# Altium footprint library QFP (~0.6mm Pitch, Square) - Corner Index.PcbLib: 21 footprints (part 1 of 2)
Each footprint in its own frame and in the unit in brackets; x right, y up, seen from the top. Pads: shape width x height; smd on the part's side, far side on the other; paste and mask are expansions set on the pad; w line width, h text height; cw(c..) or ccw(c..) is an arc to the next point about the centre after c.
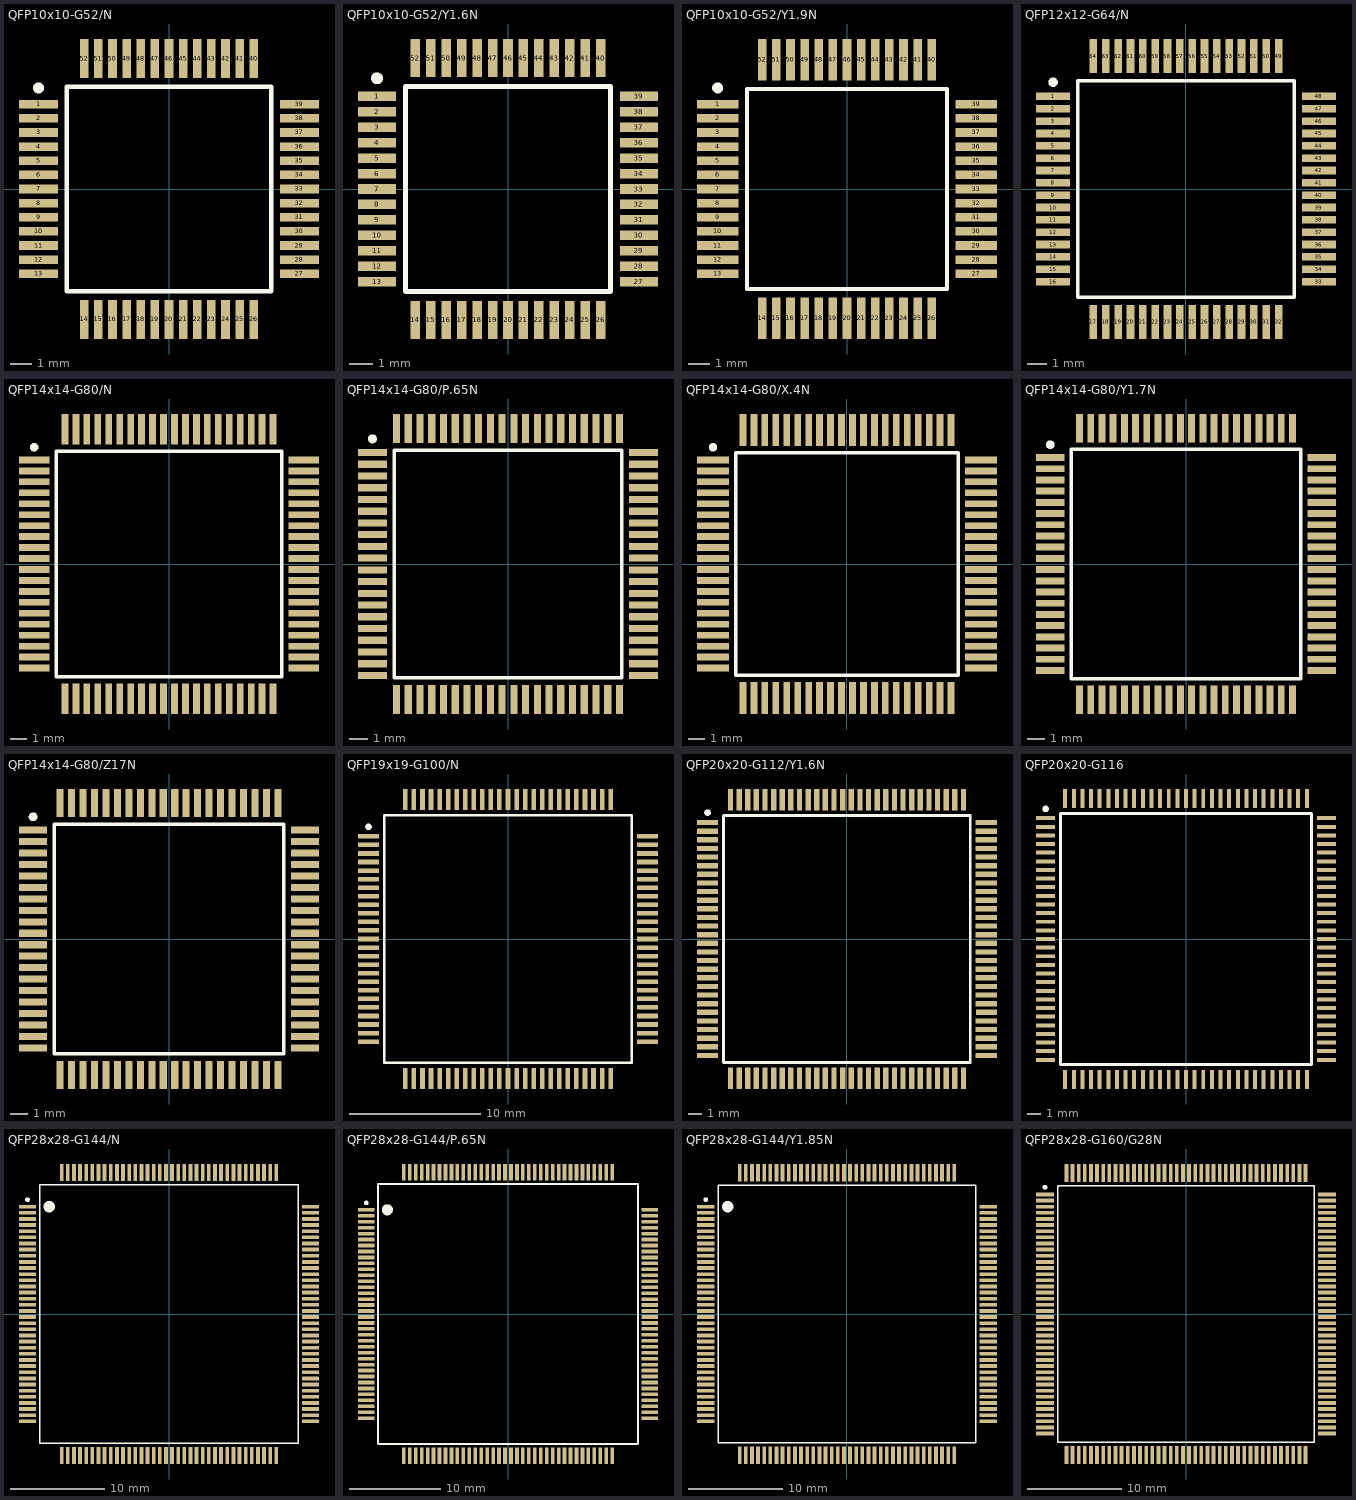
[diagram p0: the footprints below, top view; thin cyan lines are the x and y axes]

## QFP10x10-G52/N [mm] "QFP, Plastic; 52 Leads; Body 10 x 10 mm; Pitch 0.65 mm"
height 2.45
pads (52):
  rect 1.8x0.4 smd: 1(-6,3.9) 2(-6,3.25) 3(-6,2.6) 4(-6,1.95) 5(-6,1.3) 6(-6,0.65) 7(-6,0) 8(-6,-0.65) 9(-6,-1.3) 10(-6,-1.95) 11(-6,-2.6) 12(-6,-3.25) 13(-6,-3.9) 27(6,-3.9) 28(6,-3.25) 29(6,-2.6) 30(6,-1.95) 31(6,-1.3) 32(6,-0.65) 33(6,0) 34(6,0.65) 35(6,1.3) 36(6,1.95) 37(6,2.6) 38(6,3.25) 39(6,3.9)
  rect 0.4x1.8 smd: 14(-3.9,-6) 15(-3.25,-6) 16(-2.6,-6) 17(-1.95,-6) 18(-1.3,-6) 19(-0.65,-6) 20(0,-6) 21(0.65,-6) 22(1.3,-6) 23(1.95,-6) 24(2.6,-6) 25(3.25,-6) 26(3.9,-6) 40(3.9,6) 41(3.25,6) 42(2.6,6) 43(1.95,6) 44(1.3,6) 45(0.65,6) 46(0,6) 47(-0.65,6) 48(-1.3,6) 49(-1.95,6) 50(-2.6,6) 51(-3.25,6) 52(-3.9,6)
Top Overlay:
  circle w0.25: c-6,4.65 r0.125
  lines w0.2: -4.7,-4.7 4.7,-4.7 4.7,4.7 -4.7,4.7 -4.7,-4.7

## QFP10x10-G52/Y1.6N [mm] "QFP, Plastic; 52 Leads; Body 10 x 10 mm; Pitch 0.65 mm"
height 1.2
pads (52):
  rect 1.6x0.4 smd: 1(-5.5,3.9) 2(-5.5,3.25) 3(-5.5,2.6) 4(-5.5,1.95) 5(-5.5,1.3) 6(-5.5,0.65) 7(-5.5,0) 8(-5.5,-0.65) 9(-5.5,-1.3) 10(-5.5,-1.95) 11(-5.5,-2.6) 12(-5.5,-3.25) 13(-5.5,-3.9) 27(5.5,-3.9) 28(5.5,-3.25) 29(5.5,-2.6) 30(5.5,-1.95) 31(5.5,-1.3) 32(5.5,-0.65) 33(5.5,0) 34(5.5,0.65) 35(5.5,1.3) 36(5.5,1.95) 37(5.5,2.6) 38(5.5,3.25) 39(5.5,3.9)
  rect 0.4x1.6 smd: 14(-3.9,-5.5) 15(-3.25,-5.5) 16(-2.6,-5.5) 17(-1.95,-5.5) 18(-1.3,-5.5) 19(-0.65,-5.5) 20(0,-5.5) 21(0.65,-5.5) 22(1.3,-5.5) 23(1.95,-5.5) 24(2.6,-5.5) 25(3.25,-5.5) 26(3.9,-5.5) 40(3.9,5.5) 41(3.25,5.5) 42(2.6,5.5) 43(1.95,5.5) 44(1.3,5.5) 45(0.65,5.5) 46(0,5.5) 47(-0.65,5.5) 48(-1.3,5.5) 49(-1.95,5.5) 50(-2.6,5.5) 51(-3.25,5.5) 52(-3.9,5.5)
Top Overlay:
  circle w0.25: c-5.5,4.65 r0.125
  lines w0.2: -4.3,-4.3 4.3,-4.3 4.3,4.3 -4.3,4.3 -4.3,-4.3

## QFP10x10-G52/Y1.9N [mm] "QFP; 52 Leads; Body 10 x 10 mm; Pitch 0.65 mm"
height 2.45
pads (52):
  rect 1.9x0.4 smd: 1(-5.95,3.9) 2(-5.95,3.25) 3(-5.95,2.6) 4(-5.95,1.95) 5(-5.95,1.3) 6(-5.95,0.65) 7(-5.95,0) 8(-5.95,-0.65) 9(-5.95,-1.3) 10(-5.95,-1.95) 11(-5.95,-2.6) 12(-5.95,-3.25) 13(-5.95,-3.9) 27(5.95,-3.9) 28(5.95,-3.25) 29(5.95,-2.6) 30(5.95,-1.95) 31(5.95,-1.3) 32(5.95,-0.65) 33(5.95,0) 34(5.95,0.65) 35(5.95,1.3) 36(5.95,1.95) 37(5.95,2.6) 38(5.95,3.25) 39(5.95,3.9)
  rect 0.4x1.9 smd: 14(-3.9,-5.95) 15(-3.25,-5.95) 16(-2.6,-5.95) 17(-1.95,-5.95) 18(-1.3,-5.95) 19(-0.65,-5.95) 20(0,-5.95) 21(0.65,-5.95) 22(1.3,-5.95) 23(1.95,-5.95) 24(2.6,-5.95) 25(3.25,-5.95) 26(3.9,-5.95) 40(3.9,5.95) 41(3.25,5.95) 42(2.6,5.95) 43(1.95,5.95) 44(1.3,5.95) 45(0.65,5.95) 46(0,5.95) 47(-0.65,5.95) 48(-1.3,5.95) 49(-1.95,5.95) 50(-2.6,5.95) 51(-3.25,5.95) 52(-3.9,5.95)
Top Overlay:
  circle w0.25: c-5.95,4.65 r0.125
  lines w0.2: -4.6,-4.6 -4.6,4.6 4.6,4.6 4.6,-4.6 -4.6,-4.6

## QFP12x12-G64/N [mm] "QFP; 64 Leads; Body 12 x 12 mm; Pitch 0.65 mm"
height 2.45
pads (64):
  rect 1.8x0.4 smd: 1(-7,4.875) 2(-7,4.225) 3(-7,3.575) 4(-7,2.925) 5(-7,2.275) 6(-7,1.625) 7(-7,0.975) 8(-7,0.325) 9(-7,-0.325) 10(-7,-0.975) 11(-7,-1.625) 12(-7,-2.275) 13(-7,-2.925) 14(-7,-3.575) 15(-7,-4.225) 16(-7,-4.875) 33(7,-4.875) 34(7,-4.225) 35(7,-3.575) 36(7,-2.925) 37(7,-2.275) 38(7,-1.625) 39(7,-0.975) 40(7,-0.325) 41(7,0.325) 42(7,0.975) 43(7,1.625) 44(7,2.275) 45(7,2.925) 46(7,3.575) 47(7,4.225) 48(7,4.875)
  rect 0.4x1.8 smd: 17(-4.875,-7) 18(-4.225,-7) 19(-3.575,-7) 20(-2.925,-7) 21(-2.275,-7) 22(-1.625,-7) 23(-0.975,-7) 24(-0.325,-7) 25(0.325,-7) 26(0.975,-7) 27(1.625,-7) 28(2.275,-7) 29(2.925,-7) 30(3.575,-7) 31(4.225,-7) 32(4.875,-7) 49(4.875,7) 50(4.225,7) 51(3.575,7) 52(2.925,7) 53(2.275,7) 54(1.625,7) 55(0.975,7) 56(0.325,7) 57(-0.325,7) 58(-0.975,7) 59(-1.625,7) 60(-2.275,7) 61(-2.925,7) 62(-3.575,7) 63(-4.225,7) 64(-4.875,7)
Top Overlay:
  circle w0.25: c-7,5.625 r0.125
  lines w0.2: -5.7,-5.7 5.7,-5.7 5.7,5.7 -5.7,5.7 -5.7,-5.7

## QFP14x14-G80/N [mm] "QFP; 80 Leads; Body 14 x 14 mm; Pitch 0.65 mm"
height 2.45
pads (80):
  rect 1.8x0.4 smd: 1(-8,6.175) 2(-8,5.525) 3(-8,4.875) 4(-8,4.225) 5(-8,3.575) 6(-8,2.925) 7(-8,2.275) 8(-8,1.625) 9(-8,0.975) 10(-8,0.325) 11(-8,-0.325) 12(-8,-0.975) 13(-8,-1.625) 14(-8,-2.275) 15(-8,-2.925) 16(-8,-3.575) 17(-8,-4.225) 18(-8,-4.875) 19(-8,-5.525) 20(-8,-6.175) 41(8,-6.175) 42(8,-5.525) 43(8,-4.875) 44(8,-4.225) 45(8,-3.575) 46(8,-2.925) 47(8,-2.275) 48(8,-1.625) 49(8,-0.975) 50(8,-0.325) 51(8,0.325) 52(8,0.975) 53(8,1.625) 54(8,2.275) 55(8,2.925) 56(8,3.575) 57(8,4.225) 58(8,4.875) 59(8,5.525) 60(8,6.175)
  rect 0.4x1.8 smd: 21(-6.175,-8) 22(-5.525,-8) 23(-4.875,-8) 24(-4.225,-8) 25(-3.575,-8) 26(-2.925,-8) 27(-2.275,-8) 28(-1.625,-8) 29(-0.975,-8) 30(-0.325,-8) 31(0.325,-8) 32(0.975,-8) 33(1.625,-8) 34(2.275,-8) 35(2.925,-8) 36(3.575,-8) 37(4.225,-8) 38(4.875,-8) 39(5.525,-8) 40(6.175,-8) 61(6.175,8) 62(5.525,8) 63(4.875,8) 64(4.225,8) 65(3.575,8) 66(2.925,8) 67(2.275,8) 68(1.625,8) 69(0.975,8) 70(0.325,8) 71(-0.325,8) 72(-0.975,8) 73(-1.625,8) 74(-2.275,8) 75(-2.925,8) 76(-3.575,8) 77(-4.225,8) 78(-4.875,8) 79(-5.525,8) 80(-6.175,8)
Top Overlay:
  circle w0.25: c-8,6.925 r0.125
  lines w0.2: -6.7,-6.7 6.7,-6.7 6.7,6.7 -6.7,6.7 -6.7,-6.7

## QFP14x14-G80/P.65N [mm] "80-Pin Plastic Quad Flat Pack (VQFP)"
height 1.2
pads (80):
  rect 1.6x0.4 smd: 1(-7.5,6.175) 2(-7.5,5.525) 3(-7.5,4.875) 4(-7.5,4.225) 5(-7.5,3.575) 6(-7.5,2.925) 7(-7.5,2.275) 8(-7.5,1.625) 9(-7.5,0.975) 10(-7.5,0.325) 11(-7.5,-0.325) 12(-7.5,-0.975) 13(-7.5,-1.625) 14(-7.5,-2.275) 15(-7.5,-2.925) 16(-7.5,-3.575) 17(-7.5,-4.225) 18(-7.5,-4.875) 19(-7.5,-5.525) 20(-7.5,-6.175) 41(7.5,-6.175) 42(7.5,-5.525) 43(7.5,-4.875) 44(7.5,-4.225) 45(7.5,-3.575) 46(7.5,-2.925) 47(7.5,-2.275) 48(7.5,-1.625) 49(7.5,-0.975) 50(7.5,-0.325) 51(7.5,0.325) 52(7.5,0.975) 53(7.5,1.625) 54(7.5,2.275) 55(7.5,2.925) 56(7.5,3.575) 57(7.5,4.225) 58(7.5,4.875) 59(7.5,5.525) 60(7.5,6.175)
  rect 0.4x1.6 smd: 21(-6.175,-7.5) 22(-5.525,-7.5) 23(-4.875,-7.5) 24(-4.225,-7.5) 25(-3.575,-7.5) 26(-2.925,-7.5) 27(-2.275,-7.5) 28(-1.625,-7.5) 29(-0.975,-7.5) 30(-0.325,-7.5) 31(0.325,-7.5) 32(0.975,-7.5) 33(1.625,-7.5) 34(2.275,-7.5) 35(2.925,-7.5) 36(3.575,-7.5) 37(4.225,-7.5) 38(4.875,-7.5) 39(5.525,-7.5) 40(6.175,-7.5) 61(6.175,7.5) 62(5.525,7.5) 63(4.875,7.5) 64(4.225,7.5) 65(3.575,7.5) 66(2.925,7.5) 67(2.275,7.5) 68(1.625,7.5) 69(0.975,7.5) 70(0.325,7.5) 71(-0.325,7.5) 72(-0.975,7.5) 73(-1.625,7.5) 74(-2.275,7.5) 75(-2.925,7.5) 76(-3.575,7.5) 77(-4.225,7.5) 78(-4.875,7.5) 79(-5.525,7.5) 80(-6.175,7.5)
Top Overlay:
  circle w0.25: c-7.5,6.925 r0.125
  lines w0.2: -6.3,-6.3 -6.3,6.3 6.3,6.3 6.3,-6.3 -6.3,-6.3

## QFP14x14-G80/X.4N [mm] "QFP; 80 Leads; Body 14 x 14 mm; Pitch 0.65 mm"
height 3.4
pads (80):
  rect 1.9x0.4 smd: 1(-7.95,6.175) 2(-7.95,5.525) 3(-7.95,4.875) 4(-7.95,4.225) 5(-7.95,3.575) 6(-7.95,2.925) 7(-7.95,2.275) 8(-7.95,1.625) 9(-7.95,0.975) 10(-7.95,0.325) 11(-7.95,-0.325) 12(-7.95,-0.975) 13(-7.95,-1.625) 14(-7.95,-2.275) 15(-7.95,-2.925) 16(-7.95,-3.575) 17(-7.95,-4.225) 18(-7.95,-4.875) 19(-7.95,-5.525) 20(-7.95,-6.175) 41(7.95,-6.175) 42(7.95,-5.525) 43(7.95,-4.875) 44(7.95,-4.225) 45(7.95,-3.575) 46(7.95,-2.925) 47(7.95,-2.275) 48(7.95,-1.625) 49(7.95,-0.975) 50(7.95,-0.325) 51(7.95,0.325) 52(7.95,0.975) 53(7.95,1.625) 54(7.95,2.275) 55(7.95,2.925) 56(7.95,3.575) 57(7.95,4.225) 58(7.95,4.875) 59(7.95,5.525) 60(7.95,6.175)
  rect 0.4x1.9 smd: 21(-6.175,-7.95) 22(-5.525,-7.95) 23(-4.875,-7.95) 24(-4.225,-7.95) 25(-3.575,-7.95) 26(-2.925,-7.95) 27(-2.275,-7.95) 28(-1.625,-7.95) 29(-0.975,-7.95) 30(-0.325,-7.95) 31(0.325,-7.95) 32(0.975,-7.95) 33(1.625,-7.95) 34(2.275,-7.95) 35(2.925,-7.95) 36(3.575,-7.95) 37(4.225,-7.95) 38(4.875,-7.95) 39(5.525,-7.95) 40(6.175,-7.95) 61(6.175,7.95) 62(5.525,7.95) 63(4.875,7.95) 64(4.225,7.95) 65(3.575,7.95) 66(2.925,7.95) 67(2.275,7.95) 68(1.625,7.95) 69(0.975,7.95) 70(0.325,7.95) 71(-0.325,7.95) 72(-0.975,7.95) 73(-1.625,7.95) 74(-2.275,7.95) 75(-2.925,7.95) 76(-3.575,7.95) 77(-4.225,7.95) 78(-4.875,7.95) 79(-5.525,7.95) 80(-6.175,7.95)
Top Overlay:
  circle w0.25: c-7.95,6.925 r0.125
  lines w0.2: -6.6,-6.6 6.6,-6.6 6.6,6.6 -6.6,6.6 -6.6,-6.6

## QFP14x14-G80/Y1.7N [mm] "QFP; 80 Leads; Body 14 x 14 mm; Pitch 0.65 mm"
height 3.05
pads (80):
  rect 1.65x0.4 smd: 1(-7.875,6.175) 2(-7.875,5.525) 3(-7.875,4.875) 4(-7.875,4.225) 5(-7.875,3.575) 6(-7.875,2.925) 7(-7.875,2.275) 8(-7.875,1.625) 9(-7.875,0.975) 10(-7.875,0.325) 11(-7.875,-0.325) 12(-7.875,-0.975) 13(-7.875,-1.625) 14(-7.875,-2.275) 15(-7.875,-2.925) 16(-7.875,-3.575) 17(-7.875,-4.225) 18(-7.875,-4.875) 19(-7.875,-5.525) 20(-7.875,-6.175) 41(7.875,-6.175) 42(7.875,-5.525) 43(7.875,-4.875) 44(7.875,-4.225) 45(7.875,-3.575) 46(7.875,-2.925) 47(7.875,-2.275) 48(7.875,-1.625) 49(7.875,-0.975) 50(7.875,-0.325) 51(7.875,0.325) 52(7.875,0.975) 53(7.875,1.625) 54(7.875,2.275) 55(7.875,2.925) 56(7.875,3.575) 57(7.875,4.225) 58(7.875,4.875) 59(7.875,5.525) 60(7.875,6.175)
  rect 0.4x1.65 smd: 21(-6.175,-7.875) 22(-5.525,-7.875) 23(-4.875,-7.875) 24(-4.225,-7.875) 25(-3.575,-7.875) 26(-2.925,-7.875) 27(-2.275,-7.875) 28(-1.625,-7.875) 29(-0.975,-7.875) 30(-0.325,-7.875) 31(0.325,-7.875) 32(0.975,-7.875) 33(1.625,-7.875) 34(2.275,-7.875) 35(2.925,-7.875) 36(3.575,-7.875) 37(4.225,-7.875) 38(4.875,-7.875) 39(5.525,-7.875) 40(6.175,-7.875) 61(6.175,7.875) 62(5.525,7.875) 63(4.875,7.875) 64(4.225,7.875) 65(3.575,7.875) 66(2.925,7.875) 67(2.275,7.875) 68(1.625,7.875) 69(0.975,7.875) 70(0.325,7.875) 71(-0.325,7.875) 72(-0.975,7.875) 73(-1.625,7.875) 74(-2.275,7.875) 75(-2.925,7.875) 76(-3.575,7.875) 77(-4.225,7.875) 78(-4.875,7.875) 79(-5.525,7.875) 80(-6.175,7.875)
Top Overlay:
  circle w0.25: c-7.875,6.925 r0.125
  lines w0.2: -6.65,-6.65 -6.65,6.65 6.65,6.65 6.65,-6.65 -6.65,-6.65

## QFP14x14-G80/Z17N [mm] "QFP; 80 Leads; Body 14 x 14 mm; Pitch 0.65 mm"
height 1.6
pads (80):
  rect 1.6x0.4 smd: 1(-7.7,6.175) 2(-7.7,5.525) 3(-7.7,4.875) 4(-7.7,4.225) 5(-7.7,3.575) 6(-7.7,2.925) 7(-7.7,2.275) 8(-7.7,1.625) 9(-7.7,0.975) 10(-7.7,0.325) 11(-7.7,-0.325) 12(-7.7,-0.975) 13(-7.7,-1.625) 14(-7.7,-2.275) 15(-7.7,-2.925) 16(-7.7,-3.575) 17(-7.7,-4.225) 18(-7.7,-4.875) 19(-7.7,-5.525) 20(-7.7,-6.175) 41(7.7,-6.175) 42(7.7,-5.525) 43(7.7,-4.875) 44(7.7,-4.225) 45(7.7,-3.575) 46(7.7,-2.925) 47(7.7,-2.275) 48(7.7,-1.625) 49(7.7,-0.975) 50(7.7,-0.325) 51(7.7,0.325) 52(7.7,0.975) 53(7.7,1.625) 54(7.7,2.275) 55(7.7,2.925) 56(7.7,3.575) 57(7.7,4.225) 58(7.7,4.875) 59(7.7,5.525) 60(7.7,6.175)
  rect 0.4x1.6 smd: 21(-6.175,-7.7) 22(-5.525,-7.7) 23(-4.875,-7.7) 24(-4.225,-7.7) 25(-3.575,-7.7) 26(-2.925,-7.7) 27(-2.275,-7.7) 28(-1.625,-7.7) 29(-0.975,-7.7) 30(-0.325,-7.7) 31(0.325,-7.7) 32(0.975,-7.7) 33(1.625,-7.7) 34(2.275,-7.7) 35(2.925,-7.7) 36(3.575,-7.7) 37(4.225,-7.7) 38(4.875,-7.7) 39(5.525,-7.7) 40(6.175,-7.7) 61(6.175,7.7) 62(5.525,7.7) 63(4.875,7.7) 64(4.225,7.7) 65(3.575,7.7) 66(2.925,7.7) 67(2.275,7.7) 68(1.625,7.7) 69(0.975,7.7) 70(0.325,7.7) 71(-0.325,7.7) 72(-0.975,7.7) 73(-1.625,7.7) 74(-2.275,7.7) 75(-2.925,7.7) 76(-3.575,7.7) 77(-4.225,7.7) 78(-4.875,7.7) 79(-5.525,7.7) 80(-6.175,7.7)
Top Overlay:
  circle w0.25: c-7.7,6.925 r0.125
  lines w0.2: -6.5,-6.5 6.5,-6.5 6.5,6.5 -6.5,6.5 -6.5,-6.5

## QFP19x19-G100/N [mm] "QFP; 100 Leads; Body 19 x 19 mm; Pitch 0.65 mm"
height 4.07
pads (100):
  rect 1.6x0.35 smd: 1(-10.6,7.8) 2(-10.6,7.15) 3(-10.6,6.5) 4(-10.6,5.85) 5(-10.6,5.2) 6(-10.6,4.55) 7(-10.6,3.9) 8(-10.6,3.25) 9(-10.6,2.6) 10(-10.6,1.95) 11(-10.6,1.3) 12(-10.6,0.65) 13(-10.6,0) 14(-10.6,-0.65) 15(-10.6,-1.3) 16(-10.6,-1.95) 17(-10.6,-2.6) 18(-10.6,-3.25) 19(-10.6,-3.9) 20(-10.6,-4.55) 21(-10.6,-5.2) 22(-10.6,-5.85) 23(-10.6,-6.5) 24(-10.6,-7.15) 25(-10.6,-7.8) 51(10.6,-7.8) 52(10.6,-7.15) 53(10.6,-6.5) 54(10.6,-5.85) 55(10.6,-5.2) 56(10.6,-4.55) 57(10.6,-3.9) 58(10.6,-3.25) 59(10.6,-2.6) 60(10.6,-1.95) 61(10.6,-1.3) 62(10.6,-0.65) 63(10.6,0) 64(10.6,0.65) 65(10.6,1.3) 66(10.6,1.95) 67(10.6,2.6) 68(10.6,3.25) 69(10.6,3.9) 70(10.6,4.55) 71(10.6,5.2) 72(10.6,5.85) 73(10.6,6.5) 74(10.6,7.15) 75(10.6,7.8)
  rect 0.35x1.6 smd: 26(-7.8,-10.6) 27(-7.15,-10.6) 28(-6.5,-10.6) 29(-5.85,-10.6) 30(-5.2,-10.6) 31(-4.55,-10.6) 32(-3.9,-10.6) 33(-3.25,-10.6) 34(-2.6,-10.6) 35(-1.95,-10.6) 36(-1.3,-10.6) 37(-0.65,-10.6) 38(0,-10.6) 39(0.65,-10.6) 40(1.3,-10.6) 41(1.95,-10.6) 42(2.6,-10.6) 43(3.25,-10.6) 44(3.9,-10.6) 45(4.55,-10.6) 46(5.2,-10.6) 47(5.85,-10.6) 48(6.5,-10.6) 49(7.15,-10.6) 50(7.8,-10.6) 76(7.8,10.6) 77(7.15,10.6) 78(6.5,10.6) 79(5.85,10.6) 80(5.2,10.6) 81(4.55,10.6) 82(3.9,10.6) 83(3.25,10.6) 84(2.6,10.6) 85(1.95,10.6) 86(1.3,10.6) 87(0.65,10.6) 88(0,10.6) 89(-0.65,10.6) 90(-1.3,10.6) 91(-1.95,10.6) 92(-2.6,10.6) 93(-3.25,10.6) 94(-3.9,10.6) 95(-4.55,10.6) 96(-5.2,10.6) 97(-5.85,10.6) 98(-6.5,10.6) 99(-7.15,10.6) 100(-7.8,10.6)
Top Overlay:
  circle w0.25: c-10.6,8.525 r0.125
  lines w0.2: -9.4,-9.4 -9.4,9.4 9.4,9.4 9.4,-9.4 -9.4,-9.4

## QFP20x20-G112/Y1.6N [mm] "QFP; 112 Leads; Body 20 x 20 mm; Pitch 0.65 mm"
height 1.6
pads (112):
  rect 1.6x0.4 smd: 1(-10.5,8.775) 2(-10.5,8.125) 3(-10.5,7.475) 4(-10.5,6.825) 5(-10.5,6.175) 6(-10.5,5.525) 7(-10.5,4.875) 8(-10.5,4.225) 9(-10.5,3.575) 10(-10.5,2.925) 11(-10.5,2.275) 12(-10.5,1.625) 13(-10.5,0.975) 14(-10.5,0.325) 15(-10.5,-0.325) 16(-10.5,-0.975) 17(-10.5,-1.625) 18(-10.5,-2.275) 19(-10.5,-2.925) 20(-10.5,-3.575) 21(-10.5,-4.225) 22(-10.5,-4.875) 23(-10.5,-5.525) 24(-10.5,-6.175) 25(-10.5,-6.825) 26(-10.5,-7.475) 27(-10.5,-8.125) 28(-10.5,-8.775) 57(10.5,-8.775) 58(10.5,-8.125) 59(10.5,-7.475) 60(10.5,-6.825) 61(10.5,-6.175) 62(10.505,-5.525) 63(10.5,-4.875) 64(10.5,-4.225) 65(10.5,-3.575) 66(10.5,-2.925) 67(10.5,-2.275) 68(10.5,-1.625) 69(10.5,-0.975) 70(10.5,-0.325) 71(10.5,0.325) 72(10.5,0.975) 73(10.5,1.625) 74(10.5,2.275) 75(10.5,2.925) 76(10.5,3.575) 77(10.5,4.225) 78(10.5,4.875) 79(10.5,5.525) 80(10.5,6.175) 81(10.5,6.825) 82(10.5,7.475) 83(10.5,8.125) 84(10.5,8.775)
  rect 0.4x1.6 smd: 29(-8.775,-10.5) 30(-8.125,-10.5) 31(-7.475,-10.5) 32(-6.825,-10.5) 33(-6.175,-10.5) 34(-5.525,-10.5) 35(-4.875,-10.5) 36(-4.225,-10.5) 37(-3.575,-10.5) 38(-2.925,-10.5) 39(-2.275,-10.5) 40(-1.625,-10.5) 41(-0.975,-10.5) 42(-0.325,-10.5) 43(0.325,-10.5) 44(0.975,-10.5) 45(1.625,-10.5) 46(2.275,-10.5) 47(2.925,-10.5) 48(3.575,-10.5) 49(4.225,-10.5) 50(4.875,-10.5) 51(5.525,-10.5) 52(6.175,-10.5) 53(6.825,-10.5) 54(7.475,-10.5) 55(8.125,-10.5) 56(8.775,-10.5) 85(8.775,10.5) 86(8.125,10.5) 87(7.475,10.5) 88(6.825,10.5) 89(6.175,10.5) 90(5.525,10.5) 91(4.875,10.5) 92(4.225,10.5) 93(3.575,10.5) 94(2.925,10.5) 95(2.275,10.5) 96(1.625,10.5) 97(0.975,10.5) 98(0.325,10.5) 99(-0.325,10.5) 100(-0.975,10.5) 101(-1.625,10.5) 102(-2.275,10.5) 103(-2.925,10.5) 104(-3.575,10.5) 105(-4.225,10.5) 106(-4.875,10.5) 107(-5.525,10.5) 108(-6.175,10.5) 109(-6.825,10.5) 110(-7.475,10.5) 111(-8.125,10.5) 112(-8.775,10.5)
Top Overlay:
  circle w0.25: c-10.505,9.525 r0.125
  lines w0.2: -9.3,-9.3 -9.3,9.3 9.3,9.3 9.3,-9.3 -9.3,-9.3

## QFP20x20-G116 [mm] "QFP; 116 Leads; Body 20 x 20 mm; Pitch 0.65 mm"
height 1.7
pads (116):
  rect 1.45x0.3 smd: 1(-10.575,9.1) 2(-10.575,8.45) 3(-10.575,7.8) 4(-10.575,7.15) 5(-10.575,6.5) 6(-10.575,5.85) 7(-10.575,5.2) 8(-10.575,4.55) 9(-10.575,3.9) 10(-10.575,3.25) 11(-10.575,2.6) 12(-10.575,1.95) 13(-10.575,1.3) 14(-10.575,0.65) 15(-10.575,0) 16(-10.575,-0.65) 17(-10.575,-1.3) 18(-10.575,-1.95) 19(-10.575,-2.6) 20(-10.575,-3.25) 21(-10.575,-3.9) 22(-10.575,-4.55) 23(-10.575,-5.2) 24(-10.575,-5.85) 25(-10.575,-6.5) 26(-10.575,-7.15) 27(-10.575,-7.8) 28(-10.575,-8.45) 29(-10.575,-9.1) 59(10.575,-9.1) 60(10.575,-8.45) 61(10.575,-7.8) 62(10.575,-7.15) 63(10.575,-6.5) 64(10.575,-5.85) 65(10.575,-5.2) 66(10.575,-4.55) 67(10.575,-3.9) 68(10.575,-3.25) 69(10.575,-2.6) 70(10.575,-1.95) 71(10.575,-1.3) 72(10.575,-0.65) 73(10.575,0) 74(10.575,0.65) 75(10.575,1.3) 76(10.575,1.95) 77(10.575,2.6) 78(10.575,3.25) 79(10.575,3.9) 80(10.575,4.55) 81(10.575,5.2) 82(10.575,5.85) 83(10.575,6.5) 84(10.575,7.15) 85(10.575,7.8) 86(10.575,8.45) 87(10.575,9.1)
  rect 0.3x1.45 smd: 30(-9.1,-10.575) 31(-8.45,-10.575) 32(-7.8,-10.575) 33(-7.15,-10.575) 34(-6.5,-10.575) 35(-5.85,-10.575) 36(-5.2,-10.575) 37(-4.55,-10.575) 38(-3.9,-10.575) 39(-3.25,-10.575) 40(-2.6,-10.575) 41(-1.95,-10.575) 42(-1.3,-10.575) 43(-0.65,-10.575) 44(0,-10.575) 45(0.65,-10.575) 46(1.3,-10.575) 47(1.95,-10.575) 48(2.6,-10.575) 49(3.25,-10.575) 50(3.9,-10.575) 51(4.55,-10.575) 52(5.2,-10.575) 53(5.85,-10.575) 54(6.5,-10.575) 55(7.15,-10.575) 56(7.8,-10.575) 57(8.45,-10.575) 58(9.1,-10.575) 88(9.1,10.575) 89(8.45,10.575) 90(7.8,10.575) 91(7.15,10.575) 92(6.5,10.575) 93(5.85,10.575) 94(5.2,10.575) 95(4.55,10.575) 96(3.9,10.575) 97(3.25,10.575) 98(2.6,10.575) 99(1.95,10.575) 100(1.3,10.575) 101(0.65,10.575) 102(0,10.575) 103(-0.65,10.575) 104(-1.3,10.575) 105(-1.95,10.575) 106(-2.6,10.575) 107(-3.25,10.575) 108(-3.9,10.575) 109(-4.55,10.575) 110(-5.2,10.575) 111(-5.85,10.575) 112(-6.5,10.575) 113(-7.15,10.575) 114(-7.8,10.575) 115(-8.45,10.575) 116(-9.1,10.575)
Top Overlay:
  circle w0.25: c-10.575,9.8 r0.125
  lines w0.2: -9.45,-9.45 9.45,-9.45 9.45,9.45 -9.45,9.45 -9.45,-9.45

## QFP28x28-G144/N [mm] "QFP; 144 Leads; Body 28 x 28 mm; Pitch 0.65 mm"
height 3.75
pads (144):
  rect 1.8x0.4 smd: 1(-15,11.375) 2(-15,10.725) 3(-15,10.075) 4(-15,9.425) 5(-15,8.775) 6(-15,8.125) 7(-15,7.475) 8(-15,6.825) 9(-15,6.175) 10(-15,5.525) 11(-15,4.875) 12(-15,4.225) 13(-15,3.575) 14(-15,2.925) 15(-15,2.275) 16(-15,1.625) 17(-15,0.975) 18(-15,0.325) 19(-15,-0.325) 20(-15,-0.975) 21(-15,-1.625) 22(-15,-2.275) 23(-15,-2.925) 24(-15,-3.575) 25(-15,-4.225) 26(-15,-4.875) 27(-15,-5.525) 28(-15,-6.175) 29(-15,-6.825) 30(-15,-7.475) 31(-15,-8.125) 32(-15,-8.775) 33(-15,-9.425) 34(-15,-10.075) 35(-15,-10.725) 36(-15,-11.375) 73(15,-11.375) 74(15,-10.725) 75(15,-10.075) 76(15,-9.425) 77(15,-8.775) 78(15,-8.125) 79(15,-7.475) 80(15,-6.825) 81(15,-6.175) 82(15,-5.525) 83(15,-4.875) 84(15,-4.225) 85(15,-3.575) 86(15,-2.925) 87(15,-2.275) 88(15,-1.625) 89(15,-0.975) 90(15,-0.325) 91(15,0.325) 92(15,0.975) 93(15,1.625) 94(15,2.275) 95(15,2.925) 96(15,3.575) 97(15,4.225) 98(15,4.875) 99(15,5.525) 100(15,6.175) 101(15,6.825) 102(15,7.475) 103(15,8.125) 104(15,8.775) 105(15,9.425) 106(15,10.075) 107(15,10.725) 108(15,11.375)
  rect 0.4x1.8 smd: 37(-11.375,-15) 38(-10.725,-15) 39(-10.075,-15) 40(-9.425,-15) 41(-8.775,-15) 42(-8.125,-15) 43(-7.475,-15) 44(-6.825,-15) 45(-6.175,-15) 46(-5.525,-15) 47(-4.875,-15) 48(-4.225,-15) 49(-3.575,-15) 50(-2.925,-15) 51(-2.275,-15) 52(-1.625,-15) 53(-0.975,-15) 54(-0.325,-15) 55(0.325,-15) 56(0.975,-15) 57(1.625,-15) 58(2.275,-15) 59(2.925,-15) 60(3.575,-15) 61(4.225,-15) 62(4.875,-15) 63(5.525,-15) 64(6.175,-15) 65(6.825,-15) 66(7.475,-15) 67(8.125,-15) 68(8.775,-15) 69(9.425,-15) 70(10.075,-15) 71(10.725,-15) 72(11.375,-15) 109(11.375,15) 110(10.725,15) 111(10.075,15) 112(9.425,15) 113(8.775,15) 114(8.125,15) 115(7.475,15) 116(6.825,15) 117(6.175,15) 118(5.525,15) 119(4.875,15) 120(4.225,15) 121(3.575,15) 122(2.925,15) 123(2.275,15) 124(1.625,15) 125(0.975,15) 126(0.325,15) 127(-0.325,15) 128(-0.975,15) 129(-1.625,15) 130(-2.275,15) 131(-2.925,15) 132(-3.575,15) 133(-4.225,15) 134(-4.875,15) 135(-5.525,15) 136(-6.175,15) 137(-6.825,15) 138(-7.475,15) 139(-8.125,15) 140(-8.775,15) 141(-9.425,15) 142(-10.075,15) 143(-10.725,15) 144(-11.375,15)
Top Overlay:
  circle w0.6: c-12.7,11.375 r0.3
  circle w0.25: c-15,12.125 r0.125
  lines w0.2: -13.7,-13.7 13.7,-13.7 13.7,13.7 -13.7,13.7 -13.7,-13.7

## QFP28x28-G144/P.65N [mm] "Ceramic QFP; 144 Leads; Body 32 x 32 mm; Pitch 0.65 mm"
height 3.93
pads (144):
  rect 1.8x0.4 smd: 1(-15.475,11.375) 2(-15.475,10.725) 3(-15.475,10.075) 4(-15.475,9.425) 5(-15.475,8.775) 6(-15.475,8.125) 7(-15.475,7.475) 8(-15.475,6.825) 9(-15.475,6.175) 10(-15.475,5.525) 11(-15.475,4.875) 12(-15.475,4.225) 13(-15.475,3.575) 14(-15.475,2.925) 15(-15.475,2.275) 16(-15.475,1.625) 17(-15.475,0.975) 18(-15.475,0.325) 19(-15.475,-0.325) 20(-15.475,-0.975) 21(-15.475,-1.625) 22(-15.475,-2.275) 23(-15.475,-2.925) 24(-15.475,-3.575) 25(-15.475,-4.225) 26(-15.475,-4.875) 27(-15.475,-5.525) 28(-15.475,-6.175) 29(-15.475,-6.825) 30(-15.475,-7.475) 31(-15.475,-8.125) 32(-15.475,-8.775) 33(-15.475,-9.425) 34(-15.475,-10.075) 35(-15.475,-10.725) 36(-15.475,-11.375) 73(15.475,-11.375) 74(15.475,-10.725) 75(15.475,-10.075) 76(15.475,-9.425) 77(15.475,-8.775) 78(15.475,-8.125) 79(15.475,-7.475) 80(15.475,-6.825) 81(15.475,-6.175) 82(15.475,-5.525) 83(15.475,-4.875) 84(15.475,-4.225) 85(15.475,-3.575) 86(15.475,-2.925) 87(15.475,-2.275) 88(15.475,-1.625) 89(15.475,-0.975) 90(15.475,-0.325) 91(15.475,0.325) 92(15.475,0.975) 93(15.475,1.625) 94(15.475,2.275) 95(15.475,2.925) 96(15.475,3.575) 97(15.475,4.225) 98(15.475,4.875) 99(15.475,5.525) 100(15.475,6.175) 101(15.475,6.825) 102(15.475,7.475) 103(15.475,8.125) 104(15.475,8.775) 105(15.475,9.425) 106(15.475,10.075) 107(15.475,10.725) 108(15.475,11.375)
  rect 0.4x1.8 smd: 37(-11.375,-15.475) 38(-10.725,-15.475) 39(-10.075,-15.475) 40(-9.425,-15.475) 41(-8.775,-15.475) 42(-8.125,-15.475) 43(-7.475,-15.475) 44(-6.825,-15.475) 45(-6.175,-15.475) 46(-5.525,-15.475) 47(-4.875,-15.475) 48(-4.225,-15.475) 49(-3.575,-15.475) 50(-2.925,-15.475) 51(-2.275,-15.475) 52(-1.625,-15.475) 53(-0.975,-15.475) 54(-0.325,-15.475) 55(0.325,-15.475) 56(0.975,-15.475) 57(1.625,-15.475) 58(2.275,-15.475) 59(2.925,-15.475) 60(3.575,-15.475) 61(4.225,-15.475) 62(4.875,-15.475) 63(5.525,-15.475) 64(6.175,-15.475) 65(6.825,-15.475) 66(7.475,-15.475) 67(8.125,-15.475) 68(8.775,-15.475) 69(9.425,-15.475) 70(10.075,-15.475) 71(10.725,-15.475) 72(11.375,-15.475) 109(11.375,15.475) 110(10.725,15.475) 111(10.075,15.475) 112(9.425,15.475) 113(8.775,15.475) 114(8.125,15.475) 115(7.475,15.475) 116(6.825,15.475) 117(6.175,15.475) 118(5.525,15.475) 119(4.875,15.475) 120(4.225,15.475) 121(3.575,15.475) 122(2.925,15.475) 123(2.275,15.475) 124(1.625,15.475) 125(0.975,15.475) 126(0.325,15.475) 127(-0.325,15.475) 128(-0.975,15.475) 129(-1.625,15.475) 130(-2.275,15.475) 131(-2.925,15.475) 132(-3.575,15.475) 133(-4.225,15.475) 134(-4.875,15.475) 135(-5.525,15.475) 136(-6.175,15.475) 137(-6.825,15.475) 138(-7.475,15.475) 139(-8.125,15.475) 140(-8.775,15.475) 141(-9.425,15.475) 142(-10.075,15.475) 143(-10.725,15.475) 144(-11.375,15.475)
Top Overlay:
  circle w0.25: c-15.475,12.125 r0.125
  circle w0.6: c-13.175,11.375 r0.3
  lines w0.2: -14.175,-14.175 -14.175,14.175 14.175,14.175 14.175,-14.175 -14.175,-14.175

## QFP28x28-G144/Y1.85N [mm] "144-Pin Plastic Quad Flat Pack (PQFP)"
height 4.1
pads (144):
  rect 1.85x0.4 smd: 1(-14.975,11.375) 2(-14.975,10.725) 3(-14.975,10.075) 4(-14.975,9.425) 5(-14.975,8.775) 6(-14.975,8.125) 7(-14.975,7.475) 8(-14.975,6.825) 9(-14.975,6.175) 10(-14.975,5.525) 11(-14.975,4.875) 12(-14.975,4.225) 13(-14.975,3.575) 14(-14.975,2.925) 15(-14.975,2.275) 16(-14.975,1.625) 17(-14.975,0.975) 18(-14.975,0.325) 19(-14.975,-0.325) 20(-14.975,-0.975) 21(-14.975,-1.625) 22(-14.975,-2.275) 23(-14.975,-2.925) 24(-14.975,-3.575) 25(-14.975,-4.225) 26(-14.975,-4.875) 27(-14.975,-5.525) 28(-14.975,-6.175) 29(-14.975,-6.825) 30(-14.975,-7.475) 31(-14.975,-8.125) 32(-14.975,-8.775) 33(-14.975,-9.425) 34(-14.975,-10.075) 35(-14.975,-10.725) 36(-14.975,-11.375) 73(14.975,-11.375) 74(14.975,-10.725) 75(14.975,-10.075) 76(14.975,-9.425) 77(14.975,-8.775) 78(14.975,-8.125) 79(14.975,-7.475) 80(14.975,-6.825) 81(14.975,-6.175) 82(14.975,-5.525) 83(14.975,-4.875) 84(14.975,-4.225) 85(14.975,-3.575) 86(14.975,-2.925) 87(14.975,-2.275) 88(14.975,-1.625) 89(14.975,-0.975) 90(14.975,-0.325) 91(14.975,0.325) 92(14.975,0.975) 93(14.975,1.625) 94(14.975,2.275) 95(14.975,2.925) 96(14.975,3.575) 97(14.975,4.225) 98(14.975,4.875) 99(14.975,5.525) 100(14.975,6.175) 101(14.975,6.825) 102(14.975,7.475) 103(14.975,8.125) 104(14.975,8.775) 105(14.975,9.425) 106(14.975,10.075) 107(14.975,10.725) 108(14.975,11.375)
  rect 0.4x1.85 smd: 37(-11.375,-14.975) 38(-10.725,-14.975) 39(-10.075,-14.975) 40(-9.425,-14.975) 41(-8.775,-14.975) 42(-8.125,-14.975) 43(-7.475,-14.975) 44(-6.825,-14.975) 45(-6.175,-14.975) 46(-5.525,-14.975) 47(-4.875,-14.975) 48(-4.225,-14.975) 49(-3.575,-14.975) 50(-2.925,-14.975) 51(-2.275,-14.975) 52(-1.625,-14.975) 53(-0.975,-14.975) 54(-0.325,-14.975) 55(0.325,-14.975) 56(0.975,-14.975) 57(1.625,-14.975) 58(2.275,-14.975) 59(2.925,-14.975) 60(3.575,-14.975) 61(4.225,-14.975) 62(4.875,-14.975) 63(5.525,-14.975) 64(6.175,-14.975) 65(6.825,-14.975) 66(7.475,-14.975) 67(8.125,-14.975) 68(8.775,-14.975) 69(9.425,-14.975) 70(10.075,-14.975) 71(10.725,-14.975) 72(11.375,-14.975) 109(11.375,14.975) 110(10.725,14.975) 111(10.075,14.975) 112(9.425,14.975) 113(8.775,14.975) 114(8.125,14.975) 115(7.475,14.975) 116(6.825,14.975) 117(6.175,14.975) 118(5.525,14.975) 119(4.875,14.975) 120(4.225,14.975) 121(3.575,14.975) 122(2.925,14.975) 123(2.275,14.975) 124(1.625,14.975) 125(0.975,14.975) 126(0.325,14.975) 127(-0.325,14.975) 128(-0.975,14.975) 129(-1.625,14.975) 130(-2.275,14.975) 131(-2.925,14.975) 132(-3.575,14.975) 133(-4.225,14.975) 134(-4.875,14.975) 135(-5.525,14.975) 136(-6.175,14.975) 137(-6.825,14.975) 138(-7.475,14.975) 139(-8.125,14.975) 140(-8.775,14.975) 141(-9.425,14.975) 142(-10.075,14.975) 143(-10.725,14.975) 144(-11.375,14.975)
Top Overlay:
  circle w0.6: c-12.65,11.375 r0.3
  circle w0.25: c-14.975,12.125 r0.125
  lines w0.2: -13.65,-13.65 -13.65,13.65 13.65,13.65 13.65,-13.65 -13.65,-13.65

## QFP28x28-G160/G28N [mm] "160-Pin Plastic Quad Flat Pack (PQFP)"
height 4.1
pads (160):
  rect 1.9x0.4 smd: 1(-14.95,12.675) 2(-14.95,12.025) 3(-14.95,11.375) 4(-14.95,10.725) 5(-14.95,10.075) 6(-14.95,9.425) 7(-14.95,8.775) 8(-14.95,8.125) 9(-14.95,7.475) 10(-14.95,6.825) 11(-14.95,6.175) 12(-14.95,5.525) 13(-14.95,4.875) 14(-14.95,4.225) 15(-14.95,3.575) 16(-14.95,2.925) 17(-14.95,2.275) 18(-14.95,1.625) 19(-14.95,0.975) 20(-14.95,0.325) 21(-14.95,-0.325) 22(-14.95,-0.975) 23(-14.95,-1.625) 24(-14.95,-2.275) 25(-14.95,-2.925) 26(-14.95,-3.575) 27(-14.95,-4.225) 28(-14.95,-4.875) 29(-14.95,-5.525) 30(-14.95,-6.175) 31(-14.95,-6.825) 32(-14.95,-7.475) 33(-14.95,-8.125) 34(-14.95,-8.775) 35(-14.95,-9.425) 36(-14.95,-10.075) 37(-14.95,-10.725) 38(-14.95,-11.375) 39(-14.95,-12.025) 40(-14.95,-12.675) 81(14.95,-12.675) 82(14.95,-12.025) 83(14.95,-11.375) 84(14.95,-10.725) 85(14.95,-10.075) 86(14.95,-9.425) 87(14.95,-8.775) 88(14.95,-8.125) 89(14.95,-7.475) 90(14.95,-6.825) 91(14.95,-6.175) 92(14.95,-5.525) 93(14.95,-4.875) 94(14.95,-4.225) 95(14.95,-3.575) 96(14.95,-2.925) 97(14.95,-2.275) 98(14.95,-1.625) 99(14.95,-0.975) 100(14.95,-0.325) 101(14.95,0.325) 102(14.95,0.975) 103(14.95,1.625) 104(14.95,2.275) 105(14.95,2.925) 106(14.95,3.575) 107(14.95,4.225) 108(14.95,4.875) 109(14.95,5.525) 110(14.95,6.175) 111(14.95,6.825) 112(14.95,7.475) 113(14.95,8.125) 114(14.95,8.775) 115(14.95,9.425) 116(14.95,10.075) 117(14.95,10.725) 118(14.95,11.375) 119(14.95,12.025) 120(14.95,12.675)
  rect 0.4x1.9 smd: 41(-12.675,-14.95) 42(-12.025,-14.95) 43(-11.375,-14.95) 44(-10.725,-14.95) 45(-10.075,-14.95) 46(-9.425,-14.95) 47(-8.775,-14.95) 48(-8.125,-14.95) 49(-7.475,-14.95) 50(-6.825,-14.95) 51(-6.175,-14.95) 52(-5.525,-14.95) 53(-4.875,-14.95) 54(-4.225,-14.95) 55(-3.575,-14.95) 56(-2.925,-14.95) 57(-2.275,-14.95) 58(-1.625,-14.95) 59(-0.975,-14.95) 60(-0.325,-14.95) 61(0.325,-14.95) 62(0.975,-14.95) 63(1.625,-14.95) 64(2.275,-14.95) 65(2.925,-14.95) 66(3.575,-14.95) 67(4.225,-14.95) 68(4.875,-14.95) 69(5.525,-14.95) 70(6.175,-14.95) 71(6.825,-14.95) 72(7.475,-14.95) 73(8.125,-14.95) 74(8.775,-14.95) 75(9.425,-14.95) 76(10.075,-14.95) 77(10.725,-14.95) 78(11.375,-14.95) 79(12.025,-14.95) 80(12.675,-14.95) 121(12.675,14.95) 122(12.025,14.95) 123(11.375,14.95) 124(10.725,14.95) 125(10.075,14.95) 126(9.425,14.95) 127(8.775,14.95) 128(8.125,14.95) 129(7.475,14.95) 130(6.825,14.95) 131(6.175,14.95) 132(5.525,14.95) 133(4.875,14.95) 134(4.225,14.95) 135(3.575,14.95) 136(2.925,14.95) 137(2.275,14.95) 138(1.625,14.95) 139(0.975,14.95) 140(0.325,14.95) 141(-0.325,14.95) 142(-0.975,14.95) 143(-1.625,14.95) 144(-2.275,14.95) 145(-2.925,14.95) 146(-3.575,14.95) 147(-4.225,14.95) 148(-4.875,14.95) 149(-5.525,14.95) 150(-6.175,14.95) 151(-6.825,14.95) 152(-7.475,14.95) 153(-8.125,14.95) 154(-8.775,14.95) 155(-9.425,14.95) 156(-10.075,14.95) 157(-10.725,14.95) 158(-11.375,14.95) 159(-12.025,14.95) 160(-12.675,14.95)
Top Overlay:
  circle w0.25: c-14.95,13.425 r0.125
  lines w0.2: -13.6,-13.6 -13.6,13.6 13.6,13.6 13.6,-13.6 -13.6,-13.6